# Altium schematic symbol library SCH - POWER - SWITCHMODE - TI LMR61428.Schlib: 1 symbol
Pins are listed as number, name and electrical type; pins without a type are passive.

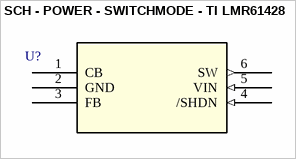
[diagram p0: symbol SCH - POWER - SWITCHMODE - TI LMR61428]

## SCH - POWER - SWITCHMODE - TI LMR61428
designator U?
footprint DDC6
pins: 1 CB, 2 GND (power), 3 FB, 4 /SHDN (in), 5 VIN (in), 6 SW (out)